# Altium schematic symbol library IC_Sch_Lib.SchLib: 3 symbols
Pins are listed as number, name and electrical type; pins without a type are passive.

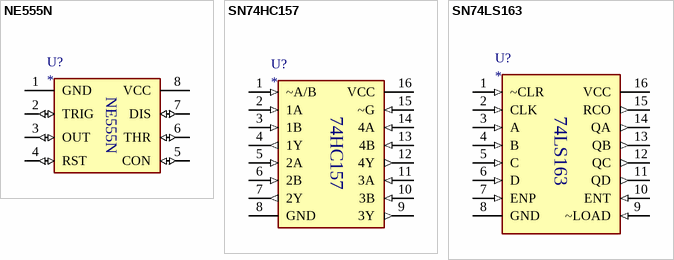
[diagram p0: symbols NE555N to SN74LS163]

## NE555N
designator U?
GENERAL PURPOSE SINGLE BIPOLAR TIMERS
footprint 8_DIP
pins: 1 GND (power), 2 TRIG (io), 3 OUT (io), 4 RST (io), 5 CON (io), 6 THR (io), 7 DIS (io), 8 VCC (power)

## SN74HC157
designator U?
SNx4HC157 Quadruple 2-Line to 1-Line Data Selectors/Multiplexers.
footprint 16_DIP
pins: 1 ~A/B (in), 2 1A (in), 3 1B (in), 4 1Y (out), 5 2A (in), 6 2B (in), 7 2Y (out), 8 GND (power), 9 3Y (out), 10 3B (in), 11 3A (in), 12 4Y (out), 13 4B (in), 14 4A (in), 15 ~G (in), 16 VCC (power)
text: 74HC157

## SN74LS163
designator U?
3 SYNCHRONOUS 4-BIT COUNTERS.
footprint 16_DIP
pins: 1 ~CLR (in), 2 CLK (in), 3 A (in), 4 B (in), 5 C (in), 6 D (in), 7 ENP (in), 8 GND (power), 9 ~LOAD (in), 10 ENT (in), 11 QD (out), 12 QC (out), 13 QB (out), 14 QA (out), 15 RCO (out), 16 VCC (power)
text: 74LS163